# Altium footprint library resistors.PcbLib: 4 footprints
Each footprint in its own frame and in the unit in brackets; x right, y up, seen from the top. Pads: shape width x height; smd on the part's side, far side on the other; paste and mask are expansions set on the pad; w line width, h text height; cw(c..) or ccw(c..) is an arc to the next point about the centre after c.
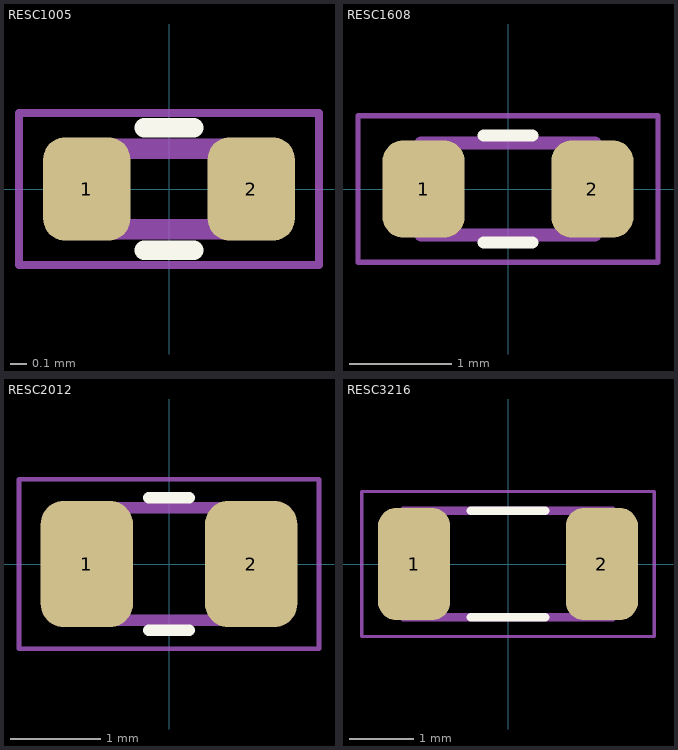
[diagram p0: the footprints below, top view; thin cyan lines are the x and y axes]

## RESC1005 [mm] "SMD 0402 (1005 Metric)"
pads (2):
  rrect50% 0.54x0.64 smd: 1(-0.51,0) 2(0.51,0)
Top Overlay:
  lines w0.12: -0.154,-0.38 0.154,-0.38 ; -0.154,0.38 0.154,0.38
Mechanical 13:
  region: -0.25,-0.251 -0.501,-0.251 -0.501,0.25 -0.25,0.25
  region: 0.5,-0.25 0.25,-0.25 0.25,0.25 0.5,0.25
  lines w0.127: -0.5,-0.25 0.5,-0.25 0.5,0.25 -0.5,0.25 -0.5,-0.25
Mechanical 15:
  lines w0.05: -0.93,-0.47 -0.93,0.47 0.93,0.47 0.93,-0.47 -0.93,-0.47
3D body "step_temp.STEP": height 0.35, standoff 0, extent -0.5,-0.25 0.5,0.25

## RESC1608 [mm] "SMD 0603 (1608 Metric)"
pads (2):
  rrect50% 0.8x0.95 smd: 1(-0.825,0) 2(0.825,0)
Top Overlay:
  lines w0.12: -0.237,-0.523 0.237,-0.523 ; -0.237,0.523 0.237,0.523
Mechanical 13:
  lines w0.127: -0.85,-0.45 0.85,-0.45 0.85,0.45 -0.85,0.45 -0.85,-0.45
Mechanical 15:
  lines w0.05: -1.465,-0.715 1.465,-0.715 1.465,0.715 -1.465,0.715 -1.465,-0.715
3D body "step_temp.STEP": height 0.55, standoff 0, extent -0.8,-0.4 0.8,0.4

## RESC2012 [mm] "SMD 0805 (2012 Metric)"
pads (2):
  rrect50% 1.025x1.4 smd: 1(-0.913,0) 2(0.913,0)
Top Overlay:
  lines w0.127: -0.227,-0.735 0.227,-0.735 ; -0.227,0.735 0.227,0.735
Mechanical 13:
  lines w0.127: -1,-0.625 -1,0.625 1,0.625 1,-0.625 -1,-0.625
Mechanical 15:
  lines w0.05: -1.665,-0.94 -1.665,0.94 1.665,0.94 1.665,-0.94 -1.665,-0.94
3D body "step_temp.STEP": height 0.6, standoff 0, extent -1,-0.625 1,0.625

## RESC3216 [mm] "SMD 1206 (3216 Metric)"
pads (2):
  rrect50% 1.125x1.75 smd: 1(-1.462,0) 2(1.462,0)
Top Overlay:
  lines w0.127: -0.58,-0.83 0.58,-0.83 ; -0.58,0.83 0.58,0.83
Mechanical 13:
  lines w0.127: -1.63,-0.83 1.63,-0.83 1.63,0.83 -1.63,0.83 -1.63,-0.83
Mechanical 15:
  lines w0.05: -2.28,-1.13 2.28,-1.13 2.28,1.13 -2.28,1.13 -2.28,-1.13
3D body "step_temp.STEP": height 0.7, standoff 0, extent -1.6,-0.8 1.6,0.8